# EAGLE library part LINEAR_POT (library SynthyComponents v13)
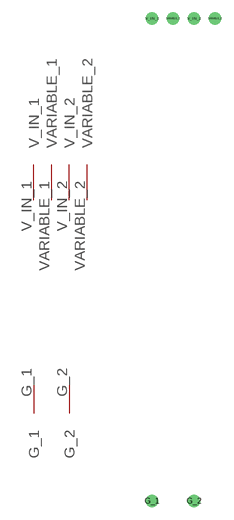
[diagram p1: symbol with the pads of LINEAR_POT_FOOTPRINT; footprint LINEAR_POT_FOOTPRINT]

Designator prefix -

## LINEAR_POT  [LINEAR_POT_FOOTPRINT]
G_1  G_1
G_2  G_2
V_IN_1  V_IN_1
V_IN_2  V_IN_2
VARIABLE_1  VARIABLE_1
VARIABLE_2  VARIABLE_2

## Footprint LINEAR_POT_FOOTPRINT (pad centres in mm)
drill 1: G_1 -3.81,-58.42; G_2 1.27,-58.42; V_IN_1 -3.81,0; V_IN_2 1.27,0; VARIABLE_1 -1.27,0; VARIABLE_2 3.81,0